# Altium schematic symbol library SIM_CARD_MINI.SchLib: 1 symbol
Pins are listed as number, name and electrical type; pins without a type are passive.

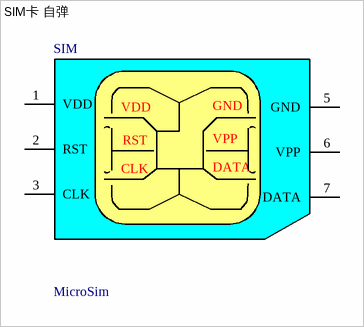
[diagram p0: symbol SIM卡 自弹]

## SIM卡 自弹
designator SIM, comment MicroSim
footprint SIM卡 自弹
pins: 1 VDD, 2 RST, 3 CLK, 5 GND, 6 VPP, 7 DATA
2 alternate drawings of the same symbol